# Altium schematic symbol library RFM-0505S.SchLib: 1 symbol
Pins are listed as number, name and electrical type; pins without a type are passive.

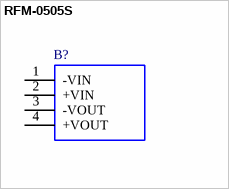
[diagram p0: symbol RFM-0505S]

## RFM-0505S
designator B?
RECOM POWER - RFM-0505S - DC-DC CONVERTER, 5V, 0.2A; Geometry.Height: 10.5mm; Manufacturer_Name: RECOM Power; Manufacturer_Part_Number: RFM-0505S; Mouser Part Number: 919-RFM-0505S; Mouser Price/Stock: https://www.mouser.co.uk/ProductDetail/RECOM-Power/RFM-0505S?qs=lYGu3FyN48dRVYKTH5ipqg%3D%3D; Arrow Part Number: RFM-0505S; Arrow Price/Stock: https://www.arrow.com/en/products/rfm-0505s/recom-power?region=nac; Mouser Testing Part Number: *; Mouser Testing Price/Stock: *; Datasheet Link: https://www.recom-power.com/pdf/Econoline/RFM.pdf
footprint RFM0505S
pins: 1 -VIN, 2 +VIN, 3 -VOUT, 4 +VOUT